# Altium footprint library WRIS-PSMC.PcbLib: 3 footprints
Each footprint in its own frame and in the unit in brackets; x right, y up, seen from the top. Pads: shape width x height; smd on the part's side, far side on the other; paste and mask are expansions set on the pad; w line width, h text height; cw(c..) or ccw(c..) is an arc to the next point about the centre after c.
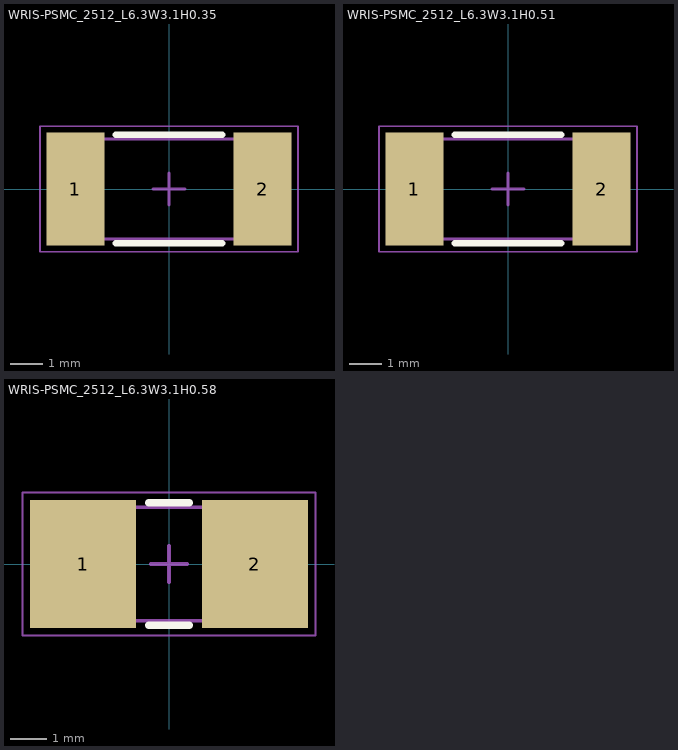
[diagram p0: the footprints below, top view; thin cyan lines are the x and y axes]

## WRIS-PSMC_2512_L6.3W3.1H0.35 [mm] "Metal Plate Resistors, SMT, body size 6.3x3.1mm"
height 0.5
pads (2):
  rect 1.8x3.5 smd: 1(-2.9,0) 2(2.9,0)
Top Overlay:
  lines w0.2: -1.65,-1.675 1.65,-1.675 ; -1.65,1.675 1.65,1.675
Top Assembly:
  lines w0.1: -3.15,-1.55 -3.15,1.55 3.15,1.55 3.15,-1.55 -3.15,-1.55
Top Designator:
  text ".Designator" at -3.647,-0.357 h1
Top 3D Body:
  lines w0.1: -3.15,-1.55 -3.15,1.55 3.15,1.55 3.15,-1.55 -3.15,-1.55
Top Courtyard:
  lines w0.05: -4,-1.95 -4,1.95 4,1.95 4,-1.95 -4,-1.95
Top Component Center:
  lines w0.1: -0.5,0 0.5,0 ; 0,-0.5 0,0.5
3D body "WRIS-PSMC_2512.stp": height 0.35, standoff 0, extent -3.15,-1.55 3.15,1.55

## WRIS-PSMC_2512_L6.3W3.1H0.51 [mm] "Metal Plate Resistors, SMT, body size 6.3x3.1mm"
height 0.66
pads (2):
  rect 1.8x3.5 smd: 1(-2.9,0) 2(2.9,0)
Top Overlay:
  lines w0.2: -1.65,-1.675 1.65,-1.675 ; -1.65,1.675 1.65,1.675
Top Assembly:
  lines w0.1: -3.15,-1.55 -3.15,1.55 3.15,1.55 3.15,-1.55 -3.15,-1.55
Top Designator:
  text ".Designator" at -3.647,-0.357 h1
Top 3D Body:
  lines w0.1: -3.15,-1.55 -3.15,1.55 3.15,1.55 3.15,-1.55 -3.15,-1.55
Top Courtyard:
  lines w0.05: -4,-1.95 -4,1.95 4,1.95 4,-1.95 -4,-1.95
Top Component Center:
  lines w0.1: -0.5,0 0.5,0 ; 0,-0.5 0,0.5
3D body "WRIS-PSMC_2512.stp": height 0.51, standoff 0, extent -3.15,-1.55 3.15,1.55

## WRIS-PSMC_2512_L6.3W3.1H0.58 [mm] "Metal Plate Resistors, SMT, body size 6.3x3.1mm"
height 0.73
pads (2):
  rect 2.9x3.5 smd: 1(-2.35,0) 2(2.35,0)
Top Overlay:
  lines w0.2: -0.55,-1.675 0.55,-1.675 ; -0.55,1.675 0.55,1.675
Top Assembly:
  lines w0.1: -3.15,-1.55 -3.15,1.55 3.15,1.55 3.15,-1.55 -3.15,-1.55
Top Designator:
  text ".Designator" at -3.647,-0.357 h1
Top 3D Body:
  lines w0.1: -3.15,-1.55 -3.15,1.55 3.15,1.55 3.15,-1.55 -3.15,-1.55
Top Courtyard:
  lines w0.05: -4,-1.95 -4,1.95 4,1.95 4,-1.95 -4,-1.95
Top Component Center:
  lines w0.1: -0.5,0 0.5,0 ; 0,-0.5 0,0.5
3D body "WRIS-PSMC_2512.stp": height 0.58, standoff 0, extent -3.15,-1.55 3.15,1.55